# EAGLE library part SD-49225-201 (library con-molex)
SD-Card connector SMT reverse mount Molex
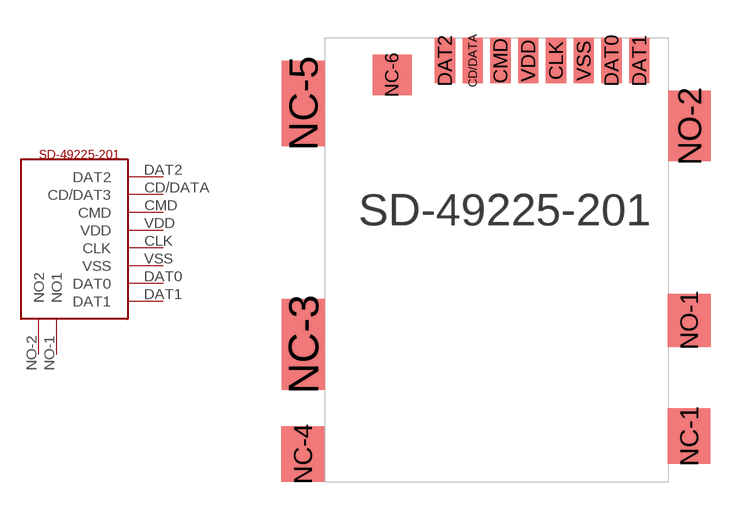
[diagram p225: symbol with the pads of SD-49225-201; footprint SD-49225-201]

Designator prefix -

## SD-49225-201  [SD-49225-201]
CD/DATA  CD/DAT3
CLK  CLK
CMD  CMD
DAT0  DAT0
DAT1  DAT1
DAT2  DAT2
NO-1  NO1
NO-2  NO2
VDD  VDD
VSS  VSS

## Footprint SD-49225-201 (pad centres in mm)
Molex Micro SD card connector SMT
smd 0.8 x 1.8: CD/DATA -1.82,9.076; CLK 1.48,9.076; CMD -0.72,9.076; DAT0 3.68,9.076; DAT1 4.78,9.076; DAT2 -2.92,9.076; VDD 0.38,9.076; VSS 2.58,9.076
smd 1.7 x 2.2: NC-1 6.75,-5.81; NC-4 -8.55,-6.52
smd 1.7 x 3.6: NC-3 -8.53,-2.17
smd 1.7 x 3.4: NC-5 -8.53,7.38
smd 1.55 x 1.6: NC-6 -5.01,8.51
smd 1.7 x 2.1: NO-1 6.76,-1.22
smd 1.7 x 2.8: NO-2 6.77,6.49